# Altium footprint library WR-TBL_Pluggable Connector_5.00mm.PcbLib: 148 footprints (part 1 of 10)
Each footprint in its own frame and in the unit in brackets; x right, y up, seen from the top. Pads: shape width x height; smd on the part's side, far side on the other; paste and mask are expansions set on the pad; w line width, h text height; cw(c..) or ccw(c..) is an arc to the next point about the centre after c.
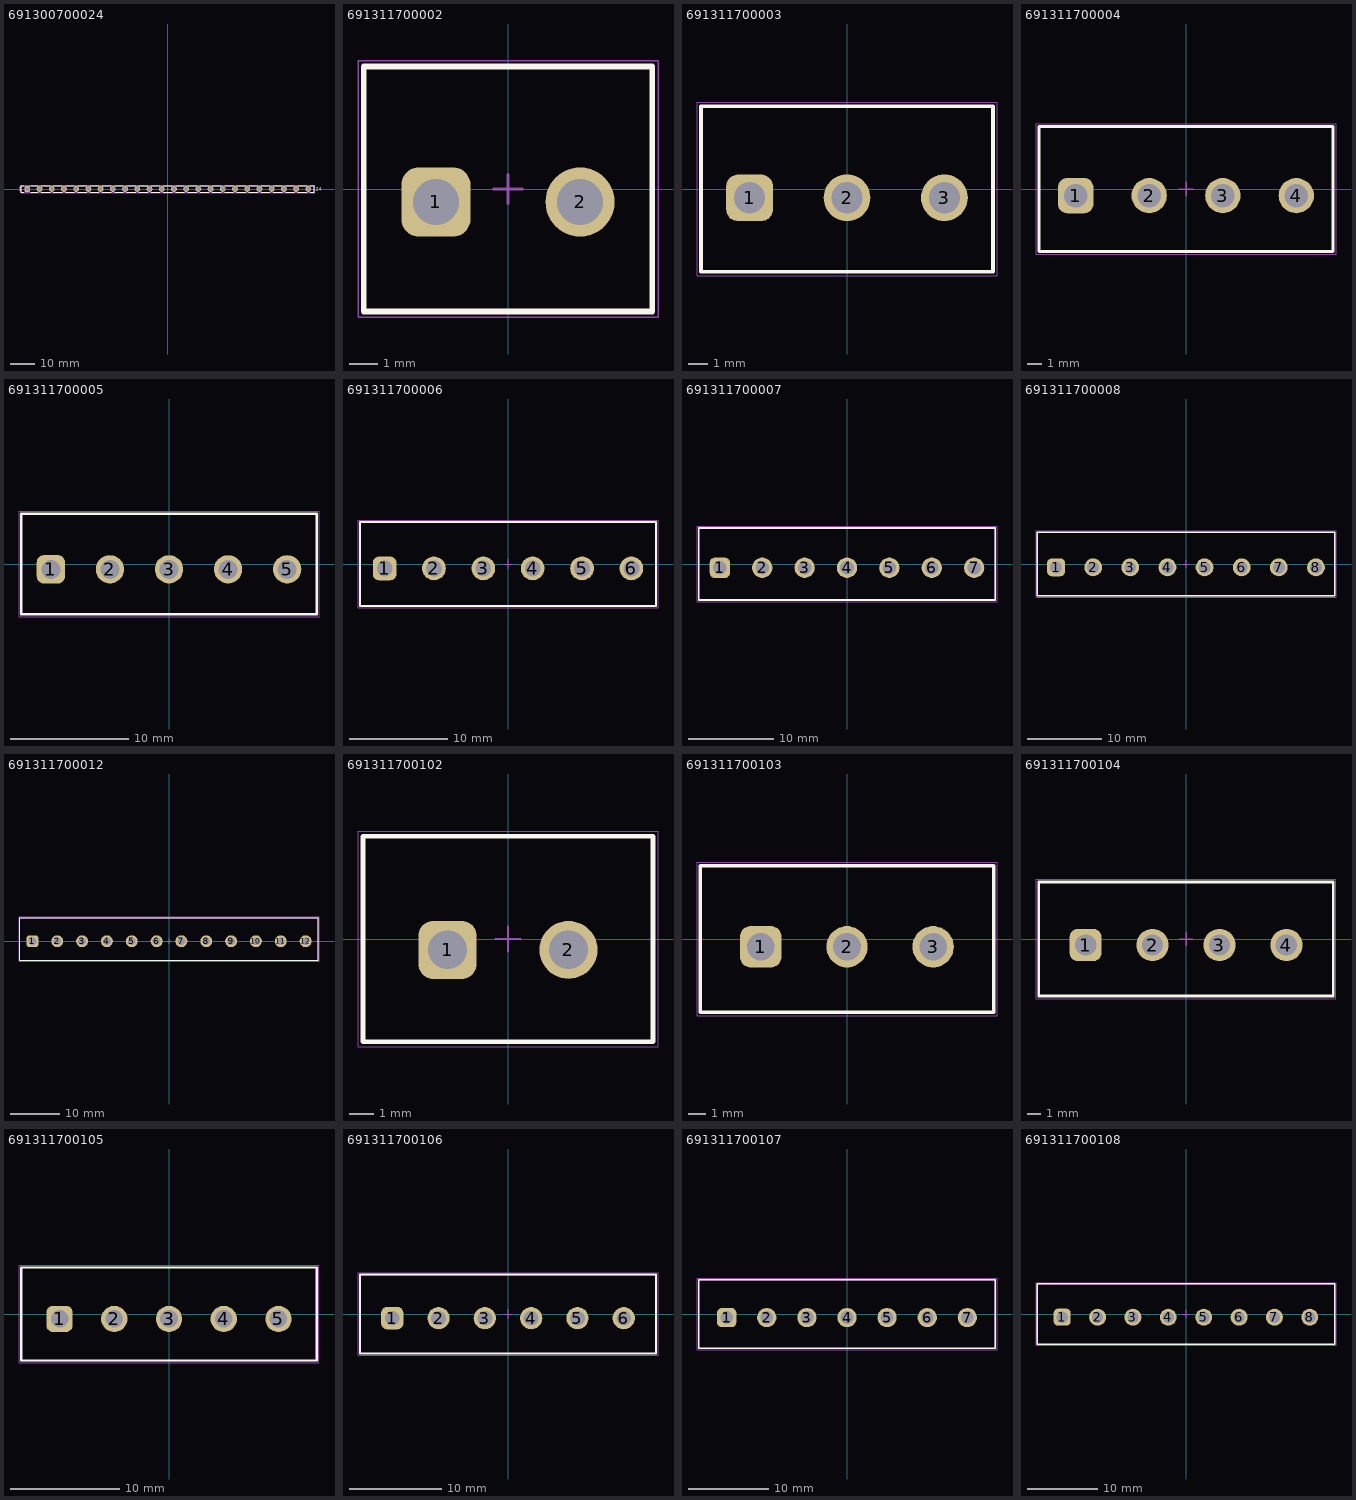
[diagram p0: the footprints below, top view; thin cyan lines are the x and y axes]

## 691300700024 [mm] "5.0mm pin header - 24p"
height 8.95
pads (24):
  rrect50% 2.4x2.4 hole 1.6: 1(-57.5,0)
  round 2.4 hole 1.6: 2(-52.5,0) 3(-47.5,0) 4(-42.5,0) 5(-37.5,0) 6(-32.5,0) 7(-27.5,0) 8(-22.5,0) 9(-17.5,0) 10(-12.5,0) 11(-7.5,0) 12(-2.5,0) 13(2.5,0) 14(7.5,0) 15(12.5,0) 16(17.5,0) 17(22.5,0) 18(27.5,0) 19(32.5,0) 20(37.5,0) 21(42.5,0) 22(47.5,0) 23(52.5,0) 24(57.5,0)
Top Overlay:
  lines w0.2: -59,-1.35 -60,-1.35 -60,1.35 -59,1.35 ; -56,-1.35 -53.2,-1.35 ; -56,1.35 -53.2,1.35 ; -51.8,-1.35 -48.2,-1.35 ; -51.8,1.35 -48.2,1.35 ; -46.8,-1.35 -43.2,-1.35 ; -46.8,1.35 -43.2,1.35 ; -41.8,-1.35 -38.2,-1.35 ; -41.8,1.35 -38.2,1.35 ; -36.8,-1.35 -33.2,-1.35 ; -36.8,1.35 -33.2,1.35 ; -31.8,-1.35 -28.2,-1.35 ; -31.8,1.35 -28.2,1.35 ; -26.8,-1.35 -23.2,-1.35 ; -26.8,1.35 -23.2,1.35 ; -21.8,-1.35 -18.2,-1.35 ; -21.8,1.35 -18.2,1.35 ; -16.8,-1.35 -13.2,-1.35 ; -16.8,1.35 -13.2,1.35 ; -11.8,-1.35 -8.2,-1.35 ; -11.8,1.35 -8.2,1.35 ; -6.8,-1.35 -3.2,-1.35 ; -6.8,1.35 -3.2,1.35 ; -1.8,-1.35 1.8,-1.35 ; -1.8,1.35 1.8,1.35 ; 3.2,-1.35 6.8,-1.35 ; 3.2,1.35 6.8,1.35 ; 8.2,-1.35 11.8,-1.35 ; 8.2,1.35 11.8,1.35 ; 13.2,-1.35 16.8,-1.35 ; 13.2,1.35 16.8,1.35 ; 18.2,-1.35 21.8,-1.35 ; 18.2,1.35 21.8,1.35 ; 23.2,-1.35 26.8,-1.35 ; 23.2,1.35 26.8,1.35 ; 28.2,-1.35 31.8,-1.35 ; 28.2,1.35 31.8,1.35 ; 33.2,-1.35 36.8,-1.35 ; 33.2,1.35 36.8,1.35 ; 38.2,-1.35 41.8,-1.35 ; 38.2,1.35 41.8,1.35 ; 43.2,-1.35 46.8,-1.35 ; 43.2,1.35 46.8,1.35 ; 48.2,-1.35 51.8,-1.35 ; 48.2,1.35 51.8,1.35 ; 53.2,-1.35 56.8,-1.35 ; 53.2,1.35 56.8,1.35 ; 58.2,-1.35 60,-1.35 60,1.35 58.2,1.35
  text "1" at -60.9,-0.7 h1.27
  text "24" at 60.6,-0.7 h1.27
Top Assembly:
  lines w0.1: 60,1.35 -60,1.35 -60,-1.35 60,-1.35 60,1.35 ; 60,1.35 60,1.35
Top Designator:
  text ".Designator" at -3.647,-0.357 h1
Top 3D Body:
  lines w0.1: 60,1.35 60,-1.35 -60,-1.35 -60,1.35 60,1.35 ; 60,1.35 60,1.35
Top Courtyard:
  lines w0.05: -60.2,-1.55 -60.2,1.55 60.2,1.55 60.2,-1.55 -60.2,-1.55
Top Component Center:
  lines w0.1: -0.5,0 0.5,0 ; 0,-0.5 0,0.5
3D body "691300700024.stp": height 9.05, standoff -3.45, extent -60,-1.35 60,1.35

## 691311700002 [mm] "5.00mm - Open Vertical PCB Header - 02p"
height 12
pads (2):
  rrect50% 2.4x2.4 hole 1.6: 1(-2.5,-0.45)
  round 2.4 hole 1.6: 2(2.5,-0.45)
Top Overlay:
  lines w0.2: -5,-4.25 -5,4.25 5,4.25 5,-4.25 -5,-4.25
Top Assembly:
  lines w0.1: -5,-4.25 5,-4.25 5,4.25 -5,4.25 -5,-4.25
Top Designator:
  text ".Designator" at -3.647,-0.357 h1
Top 3D Body:
  lines w0.1: -5,-4.25 -5,4.25 5,4.25 5,-4.25 -5,-4.25
Top Courtyard:
  lines w0.05: -5.2,-4.45 -5.2,4.45 5.2,4.45 5.2,-4.45 -5.2,-4.45
Top Component Center:
  lines w0.1: -0.5,0 0.5,0 ; 0,-0.5 0,0.5
3D body "691311700002.stp": height 12.1, standoff -3.9, extent -5,-4.25 5,4.25

## 691311700003 [mm] "5.00mm - Open Vertical PCB Header - 03p"
height 12
pads (3):
  rrect50% 2.4x2.4 hole 1.6: 1(-5,-0.45)
  round 2.4 hole 1.6: 2(0,-0.45) 3(5,-0.45)
Top Overlay:
  lines w0.2: -7.5,-4.25 7.5,-4.25 7.5,4.25 -7.5,4.25 -7.5,-4.25
Top Assembly:
  lines w0.1: -7.5,-4.25 -7.5,4.25 7.5,4.25 7.5,-4.25 -7.5,-4.25
Top Designator:
  text ".Designator" at -3.647,-0.357 h1
Top 3D Body:
  lines w0.1: -7.5,-4.25 7.5,-4.25 7.5,4.25 -7.5,4.25 -7.5,-4.25
Top Courtyard:
  lines w0.05: -7.7,-4.45 7.7,-4.45 7.7,4.45 -7.7,4.45 -7.7,-4.45
Top Component Center:
  lines w0.1: -0.5,0 0.5,0 ; 0,-0.5 0,0.5
3D body "691311700003.stp": height 12.1, standoff -3.9, extent -7.5,-4.25 7.5,4.25

## 691311700004 [mm] "5.00mm - Open Vertical PCB Header - 04p"
height 12
pads (4):
  rrect50% 2.4x2.4 hole 1.6: 1(-7.5,-0.45)
  round 2.4 hole 1.6: 2(-2.5,-0.45) 3(2.5,-0.45) 4(7.5,-0.45)
Top Overlay:
  lines w0.2: -10,-4.25 -10,4.25 10,4.25 10,-4.25 -10,-4.25
Top Assembly:
  lines w0.1: -10,-4.25 10,-4.25 10,4.25 -10,4.25 -10,-4.25
Top Designator:
  text ".Designator" at -3.647,-0.357 h1
Top 3D Body:
  lines w0.1: -10,-4.25 -10,4.25 10,4.25 10,-4.25 -10,-4.25
Top Courtyard:
  lines w0.05: -10.2,-4.45 -10.2,4.45 10.2,4.45 10.2,-4.45 -10.2,-4.45
Top Component Center:
  lines w0.1: -0.5,0 0.5,0 ; 0,-0.5 0,0.5
3D body "691311700004.stp": height 12.1, standoff -3.9, extent -10,-4.25 10,4.25

## 691311700005 [mm] "5.00mm - Open Vertical PCB Header - 05p"
height 12
pads (5):
  rrect50% 2.4x2.4 hole 1.6: 1(-10,-0.45)
  round 2.4 hole 1.6: 2(-5,-0.45) 3(0,-0.45) 4(5,-0.45) 5(10,-0.45)
Top Overlay:
  lines w0.2: -12.5,-4.25 12.5,-4.25 12.5,4.25 -12.5,4.25 -12.5,-4.25
Top Assembly:
  lines w0.1: -12.5,-4.25 -12.5,4.25 12.5,4.25 12.5,-4.25 -12.5,-4.25
Top Designator:
  text ".Designator" at -3.647,-0.357 h1
Top 3D Body:
  lines w0.1: -12.5,-4.25 12.5,-4.25 12.5,4.25 -12.5,4.25 -12.5,-4.25
Top Courtyard:
  lines w0.05: -12.7,-4.45 12.7,-4.45 12.7,4.45 -12.7,4.45 -12.7,-4.45
Top Component Center:
  lines w0.1: -0.5,0 0.5,0 ; 0,-0.5 0,0.5
3D body "691311700005.stp": height 12.1, standoff -3.9, extent -12.5,-4.25 12.5,4.25

## 691311700006 [mm] "5.00mm - Open Vertical PCB Header - 06p"
height 12
pads (6):
  rrect50% 2.4x2.4 hole 1.6: 1(-12.5,-0.45)
  round 2.4 hole 1.6: 2(-7.5,-0.45) 3(-2.5,-0.45) 4(2.5,-0.45) 5(7.5,-0.45) 6(12.5,-0.45)
Top Overlay:
  lines w0.2: -15,-4.25 -15,4.25 15,4.25 15,-4.25 -15,-4.25
Top Assembly:
  lines w0.1: -15,-4.25 15,-4.25 15,4.25 -15,4.25 -15,-4.25
Top Designator:
  text ".Designator" at -3.647,-0.357 h1
Top 3D Body:
  lines w0.1: -15,-4.25 -15,4.25 15,4.25 15,-4.25 -15,-4.25
Top Courtyard:
  lines w0.05: -15.2,-4.45 -15.2,4.45 15.2,4.45 15.2,-4.45 -15.2,-4.45
Top Component Center:
  lines w0.1: -0.5,0 0.5,0 ; 0,-0.5 0,0.5
3D body "691311700006.stp": height 12.1, standoff -3.9, extent -15,-4.25 15,4.25

## 691311700007 [mm] "5.00mm - Open Vertical PCB Header - 07p"
height 12
pads (7):
  rrect50% 2.4x2.4 hole 1.6: 1(-15,-0.45)
  round 2.4 hole 1.6: 2(-10,-0.45) 3(-5,-0.45) 4(0,-0.45) 5(5,-0.45) 6(10,-0.45) 7(15,-0.45)
Top Overlay:
  lines w0.2: -17.5,-4.25 17.5,-4.25 17.5,4.25 -17.5,4.25 -17.5,-4.25
Top Assembly:
  lines w0.1: -17.5,-4.25 -17.5,4.25 17.5,4.25 17.5,-4.25 -17.5,-4.25
Top Designator:
  text ".Designator" at -3.647,-0.357 h1
Top 3D Body:
  lines w0.1: -17.5,-4.25 17.5,-4.25 17.5,4.25 -17.5,4.25 -17.5,-4.25
Top Courtyard:
  lines w0.05: -17.7,-4.45 17.7,-4.45 17.7,4.45 -17.7,4.45 -17.7,-4.45
Top Component Center:
  lines w0.1: -0.5,0 0.5,0 ; 0,-0.5 0,0.5
3D body "691311700007.stp": height 12.1, standoff -3.9, extent -17.5,-4.25 17.5,4.25

## 691311700008 [mm] "5.00mm - Open Vertical PCB Header - 08p"
height 12
pads (8):
  rrect50% 2.4x2.4 hole 1.6: 1(-17.5,-0.45)
  round 2.4 hole 1.6: 2(-12.5,-0.45) 3(-7.5,-0.45) 4(-2.5,-0.45) 5(2.5,-0.45) 6(7.5,-0.45) 7(12.5,-0.45) 8(17.5,-0.45)
Top Overlay:
  lines w0.2: -20,-4.25 20,-4.25 20,4.25 -20,4.25 -20,-4.25
Top Assembly:
  lines w0.1: -20,-4.25 -20,4.25 20,4.25 20,-4.25 -20,-4.25
Top Designator:
  text ".Designator" at -3.647,-0.357 h1
Top 3D Body:
  lines w0.1: -20,-4.25 20,-4.25 20,4.25 -20,4.25 -20,-4.25
Top Courtyard:
  lines w0.05: -20.2,-4.45 20.2,-4.45 20.2,4.45 -20.2,4.45 -20.2,-4.45
Top Component Center:
  lines w0.1: -0.5,0 0.5,0 ; 0,-0.5 0,0.5
3D body "691311700008.stp": height 12.1, standoff -3.9, extent -20,-4.25 20,4.25

## 691311700012 [mm] "5.00mm - Open Vertical PCB Header - 12p"
height 12
pads (12):
  rrect50% 2.4x2.4 hole 1.6: 1(-27.5,0)
  round 2.4 hole 1.6: 2(-22.5,0) 3(-17.5,0) 4(-12.5,0) 5(-7.5,0) 6(-2.5,0) 7(2.5,0) 8(7.5,0) 9(12.5,0) 10(17.5,0) 11(22.5,0) 12(27.5,0)
Top Overlay:
  lines w0.2: -30,-3.8 30,-3.8 30,4.7 -30,4.7 -30,-3.8
Top Assembly:
  lines w0.1: -30,-3.8 -30,4.7 30,4.7 30,-3.8 -30,-3.8
Top Designator:
  text ".Designator" at -3.647,-0.357 h1
Top 3D Body:
  lines w0.1: -30,-3.8 30,-3.8 30,4.7 -30,4.7 -30,-3.8
Top Courtyard:
  lines w0.05: -30.2,-4 30.2,-4 30.2,4.9 -30.2,4.9 -30.2,-4
Top Component Center:
  lines w0.1: -0.5,0 0.5,0 ; 0,-0.5 0,0.5
3D body "691311700012.stp": height 12.1, standoff -3.9, extent -30,-3.8 30,4.7

## 691311700102 [mm] "5.00mm - PCB Vertical Closed - 02p"
height 12
pads (2):
  rrect50% 2.4x2.4 hole 1.6: 1(-2.5,-0.45)
  round 2.4 hole 1.6: 2(2.5,-0.45)
Top Overlay:
  lines w0.2: -6,-4.25 6,-4.25 6,4.25 -6,4.25 -6,-4.25
Top Assembly:
  lines w0.1: -6,-4.25 -6,4.25 6,4.25 6,-4.25 -6,-4.25
Top Designator:
  text ".Designator" at -3.647,-0.357 h1
Top 3D Body:
  lines w0.1: -6,-4.25 6,-4.25 6,4.25 -6,4.25 -6,-4.25
Top Courtyard:
  lines w0.05: -6.2,-4.45 -6.2,4.45 6.2,4.45 6.2,-4.45 -6.2,-4.45
Top Component Center:
  lines w0.1: -0.5,0 0.5,0 ; 0,-0.5 0,0.5
3D body "691311700102.stp": height 12.1, standoff -3.9, extent -6,-4.25 6,4.25

## 691311700103 [mm] "5.00mm - PCB Vertical Closed - 03p"
height 12
pads (3):
  rrect50% 2.4x2.4 hole 1.6: 1(-5,-0.45)
  round 2.4 hole 1.6: 2(0,-0.45) 3(5,-0.45)
Top Overlay:
  lines w0.2: -8.5,-4.25 -8.5,4.25 8.5,4.25 8.5,-4.25 -8.5,-4.25
Top Assembly:
  lines w0.1: -8.5,-4.25 8.5,-4.25 8.5,4.25 -8.5,4.25 -8.5,-4.25
Top Designator:
  text ".Designator" at -3.647,-0.357 h1
Top 3D Body:
  lines w0.1: -8.5,-4.25 -8.5,4.25 8.5,4.25 8.5,-4.25 -8.5,-4.25
Top Courtyard:
  lines w0.05: -8.7,-4.45 8.7,-4.45 8.7,4.45 -8.7,4.45 -8.7,-4.45
Top Component Center:
  lines w0.1: -0.5,0 0.5,0 ; 0,-0.5 0,0.5
3D body "691311700103.stp": height 12.1, standoff -3.9, extent -8.5,-4.25 8.5,4.25

## 691311700104 [mm] "5.00mm - PCB Vertical Closed - 04p"
height 12
pads (4):
  rrect50% 2.4x2.4 hole 1.6: 1(-7.5,-0.45)
  round 2.4 hole 1.6: 2(-2.5,-0.45) 3(2.5,-0.45) 4(7.5,-0.45)
Top Overlay:
  lines w0.2: -11,-4.25 -11,4.25 11,4.25 11,-4.25 -11,-4.25
Top Assembly:
  lines w0.1: -11,-4.25 11,-4.25 11,4.25 -11,4.25 -11,-4.25
Top Designator:
  text ".Designator" at -3.647,-0.357 h1
Top 3D Body:
  lines w0.1: -11,-4.25 -11,4.25 11,4.25 11,-4.25 -11,-4.25
Top Courtyard:
  lines w0.05: -11.2,-4.45 11.2,-4.45 11.2,4.45 -11.2,4.45 -11.2,-4.45
Top Component Center:
  lines w0.1: -0.5,0 0.5,0 ; 0,-0.5 0,0.5
3D body "691311700104.stp": height 12.1, standoff -3.9, extent -11,-4.25 11,4.25

## 691311700105 [mm] "5.00mm - PCB Vertical Closed - 05p"
height 12
pads (5):
  rrect50% 2.4x2.4 hole 1.6: 1(-10,-0.45)
  round 2.4 hole 1.6: 2(-5,-0.45) 3(0,-0.45) 4(5,-0.45) 5(10,-0.45)
Top Overlay:
  lines w0.2: -13.5,-4.25 13.5,-4.25 13.5,4.25 -13.5,4.25 -13.5,-4.25
Top Assembly:
  lines w0.1: -13.5,-4.25 -13.5,4.25 13.5,4.25 13.5,-4.25 -13.5,-4.25
Top Designator:
  text ".Designator" at -3.647,-0.357 h1
Top 3D Body:
  lines w0.1: -13.5,-4.25 13.5,-4.25 13.5,4.25 -13.5,4.25 -13.5,-4.25
Top Courtyard:
  lines w0.05: -13.7,-4.45 -13.7,4.45 13.7,4.45 13.7,-4.45 -13.7,-4.45
Top Component Center:
  lines w0.1: -0.5,0 0.5,0 ; 0,-0.5 0,0.5
3D body "691311700105.stp": height 12.1, standoff -3.9, extent -13.5,-4.25 13.5,4.25

## 691311700106 [mm] "5.00mm - PCB Vertical Closed - 06p"
height 12
pads (6):
  rrect50% 2.4x2.4 hole 1.6: 1(-12.5,-0.45)
  round 2.4 hole 1.6: 2(-7.5,-0.45) 3(-2.5,-0.45) 4(2.5,-0.45) 5(7.5,-0.45) 6(12.5,-0.45)
Top Overlay:
  lines w0.2: -16,-4.25 -16,4.25 16,4.25 16,-4.25 -16,-4.25
Top Assembly:
  lines w0.1: -16,-4.25 16,-4.25 16,4.25 -16,4.25 -16,-4.25
Top Designator:
  text ".Designator" at -3.647,-0.357 h1
Top 3D Body:
  lines w0.1: -16,-4.25 -16,4.25 16,4.25 16,-4.25 -16,-4.25
Top Courtyard:
  lines w0.05: -16.2,-4.45 16.2,-4.45 16.2,4.45 -16.2,4.45 -16.2,-4.45
Top Component Center:
  lines w0.1: -0.5,0 0.5,0 ; 0,-0.5 0,0.5
3D body "691311700106.stp": height 12.1, standoff -3.9, extent -16,-4.25 16,4.25

## 691311700107 [mm] "5.00mm - PCB Vertical Closed - 07p"
height 12
pads (7):
  rrect50% 2.4x2.4 hole 1.6: 1(-15,-0.45)
  round 2.4 hole 1.6: 2(-10,-0.45) 3(-5,-0.45) 4(0,-0.45) 5(5,-0.45) 6(10,-0.45) 7(15,-0.45)
Top Overlay:
  lines w0.2: -18.5,-4.25 -18.5,4.25 18.5,4.25 18.5,-4.25 -18.5,-4.25
Top Assembly:
  lines w0.1: -18.5,-4.25 18.5,-4.25 18.5,4.25 -18.5,4.25 -18.5,-4.25
Top Designator:
  text ".Designator" at -3.647,-0.357 h1
Top 3D Body:
  lines w0.1: -18.5,-4.25 -18.5,4.25 18.5,4.25 18.5,-4.25 -18.5,-4.25
Top Courtyard:
  lines w0.05: -18.7,-4.45 18.7,-4.45 18.7,4.45 -18.7,4.45 -18.7,-4.45
Top Component Center:
  lines w0.1: -0.5,0 0.5,0 ; 0,-0.5 0,0.5
3D body "691311700107.stp": height 12.1, standoff -3.9, extent -18.5,-4.25 18.5,4.25

## 691311700108 [mm] "5.00mm - PCB Vertical Closed - 08p"
height 12
pads (8):
  rrect50% 2.4x2.4 hole 1.6: 1(-17.5,-0.45)
  round 2.4 hole 1.6: 2(-12.5,-0.45) 3(-7.5,-0.45) 4(-2.5,-0.45) 5(2.5,-0.45) 6(7.5,-0.45) 7(12.5,-0.45) 8(17.5,-0.45)
Top Overlay:
  lines w0.2: -21,-4.25 21,-4.25 21,4.25 -21,4.25 -21,-4.25
Top Assembly:
  lines w0.1: -21,-4.25 -21,4.25 21,4.25 21,-4.25 -21,-4.25
Top Designator:
  text ".Designator" at -3.647,-0.357 h1
Top 3D Body:
  lines w0.1: -21,-4.25 21,-4.25 21,4.25 -21,4.25 -21,-4.25
Top Courtyard:
  lines w0.05: -21.2,-4.45 -21.2,4.45 21.2,4.45 21.2,-4.45 -21.2,-4.45
Top Component Center:
  lines w0.1: -0.5,0 0.5,0 ; 0,-0.5 0,0.5
3D body "691311700108.stp": height 12.1, standoff -3.9, extent -21,-4.25 21,4.25